# EAGLE library part MODULO_CORTEX_M0 (library MODULO_CORTEX)
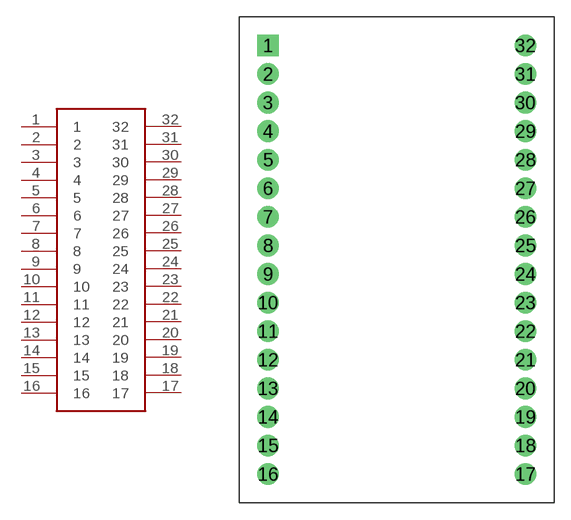
[diagram p0: symbol with the pads of MODULO_CORTEX_M0; footprint MODULO_CORTEX_M0]

Designator prefix -

## MODULO_CORTEX_M0  [MODULO_CORTEX_M0]
1  1
2  2
3  3
4  4
5  5
6  6
7  7
8  8
9  9
10  10
11  11
12  12
13  13
14  14
15  15
16  16
17  17
18  18
19  19
20  20
21  21
22  22
23  23
24  24
25  25
26  26
27  27
28  28
29  29
30  30
31  31
32  32

## Footprint MODULO_CORTEX_M0 (pad centres in mm)
drill 1 pad 1.93 square: 1 -22.86,-2.54
drill 1 pad 1.93: 2 -22.86,-5.08; 3 -22.86,-7.62; 4 -22.86,-10.16; 5 -22.86,-12.7; 6 -22.86,-15.24; 7 -22.86,-17.78; 8 -22.86,-20.32; 9 -22.86,-22.86; 10 -22.86,-25.4; 11 -22.86,-27.94; 12 -22.86,-30.48; 13 -22.86,-33.02; 14 -22.86,-35.56; 15 -22.86,-38.1; 16 -22.86,-40.64; 17 0,-40.64; 18 0,-38.1; 19 0,-35.56; 20 0,-33.02; 21 0,-30.48; 22 0,-27.94; 23 0,-25.4; 24 0,-22.86; 25 0,-20.32; 26 0,-17.78; 27 0,-15.24; 28 0,-12.7; 29 0,-10.16; 30 0,-7.62; 31 0,-5.08; 32 0,-2.54